# EAGLE library part LCD (library lsd2016)
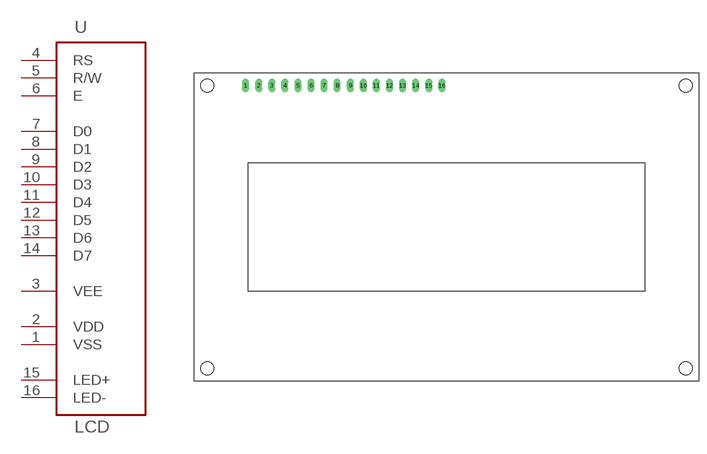
[diagram p2: symbol with the pads of LCD; footprint LCD]

Designator prefix -

## LCD  [LCD]
1  VSS  pwr
2  VDD  pwr
3  VEE  in
4  RS  in
5  R/W  in
6  E  in
7  D0
8  D1
9  D2
10  D3
11  D4
12  D5
13  D6
14  D7
15  LED+  pwr
16  LED-  pwr

## Footprint LCD (pad centres in mm)
drill 0.813 long: 1 0,0; 2 2.54,0; 3 5.08,0; 4 7.62,0; 5 10.16,0; 6 12.7,0; 7 15.24,0; 8 17.78,0; 9 20.32,0; 10 22.86,0; 11 25.4,0; 12 27.94,0; 13 30.48,0; 14 33.02,0; 15 35.56,0; 16 38.1,0
hole 2.5 at -7.5,0
hole 2.5 at 85.5,0
hole 2.5 at -7.5,-55
hole 2.5 at 85.5,-55